# EAGLE library part 1803332 (library Terminal-Blocks)
TERM BLOCK HDR 8POS 90DEG 3.81MM
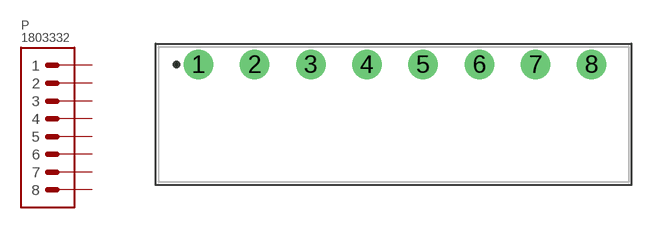
[diagram p0: symbol with the pads of 1803332; footprint 1803332]

Designator prefix P

## 1803332 (DATASHEET: https://media.digikey.com/pdf/Data%20Sheets/Phoenix%20Contact%20PDFs/1803332.pdf; DESCRIPTION: 8 Position Terminal Block Header, Male Pins, Shrouded (4 Side) 0.150" (3.81mm) 90°, Right Angle Through Hole; LINK: https://www.phoenixcontact.com/en-in/products/pcb-headers-mc-15-8-g-381-1803332; MANUFACTURER: Phoenix Contact; MPN: 1803332; PITCH: 3.81mm)  [1803332]
1  1
2  2
3  3
4  4
5  5
6  6
7  7
8  8

## Footprint 1803332 (pad centres in mm)
drill 1.2 pad 2: 1 0,0; 2 3.81,0; 3 7.62,0; 4 11.43,0; 5 15.24,0; 6 19.05,0; 7 22.86,0; 8 26.67,0